# Altium integrated library AD Instrumentation Amplifier.IntLib: 75 symbols (part 1 of 2)
Pins are listed as number, name and electrical type; pins without a type are passive.

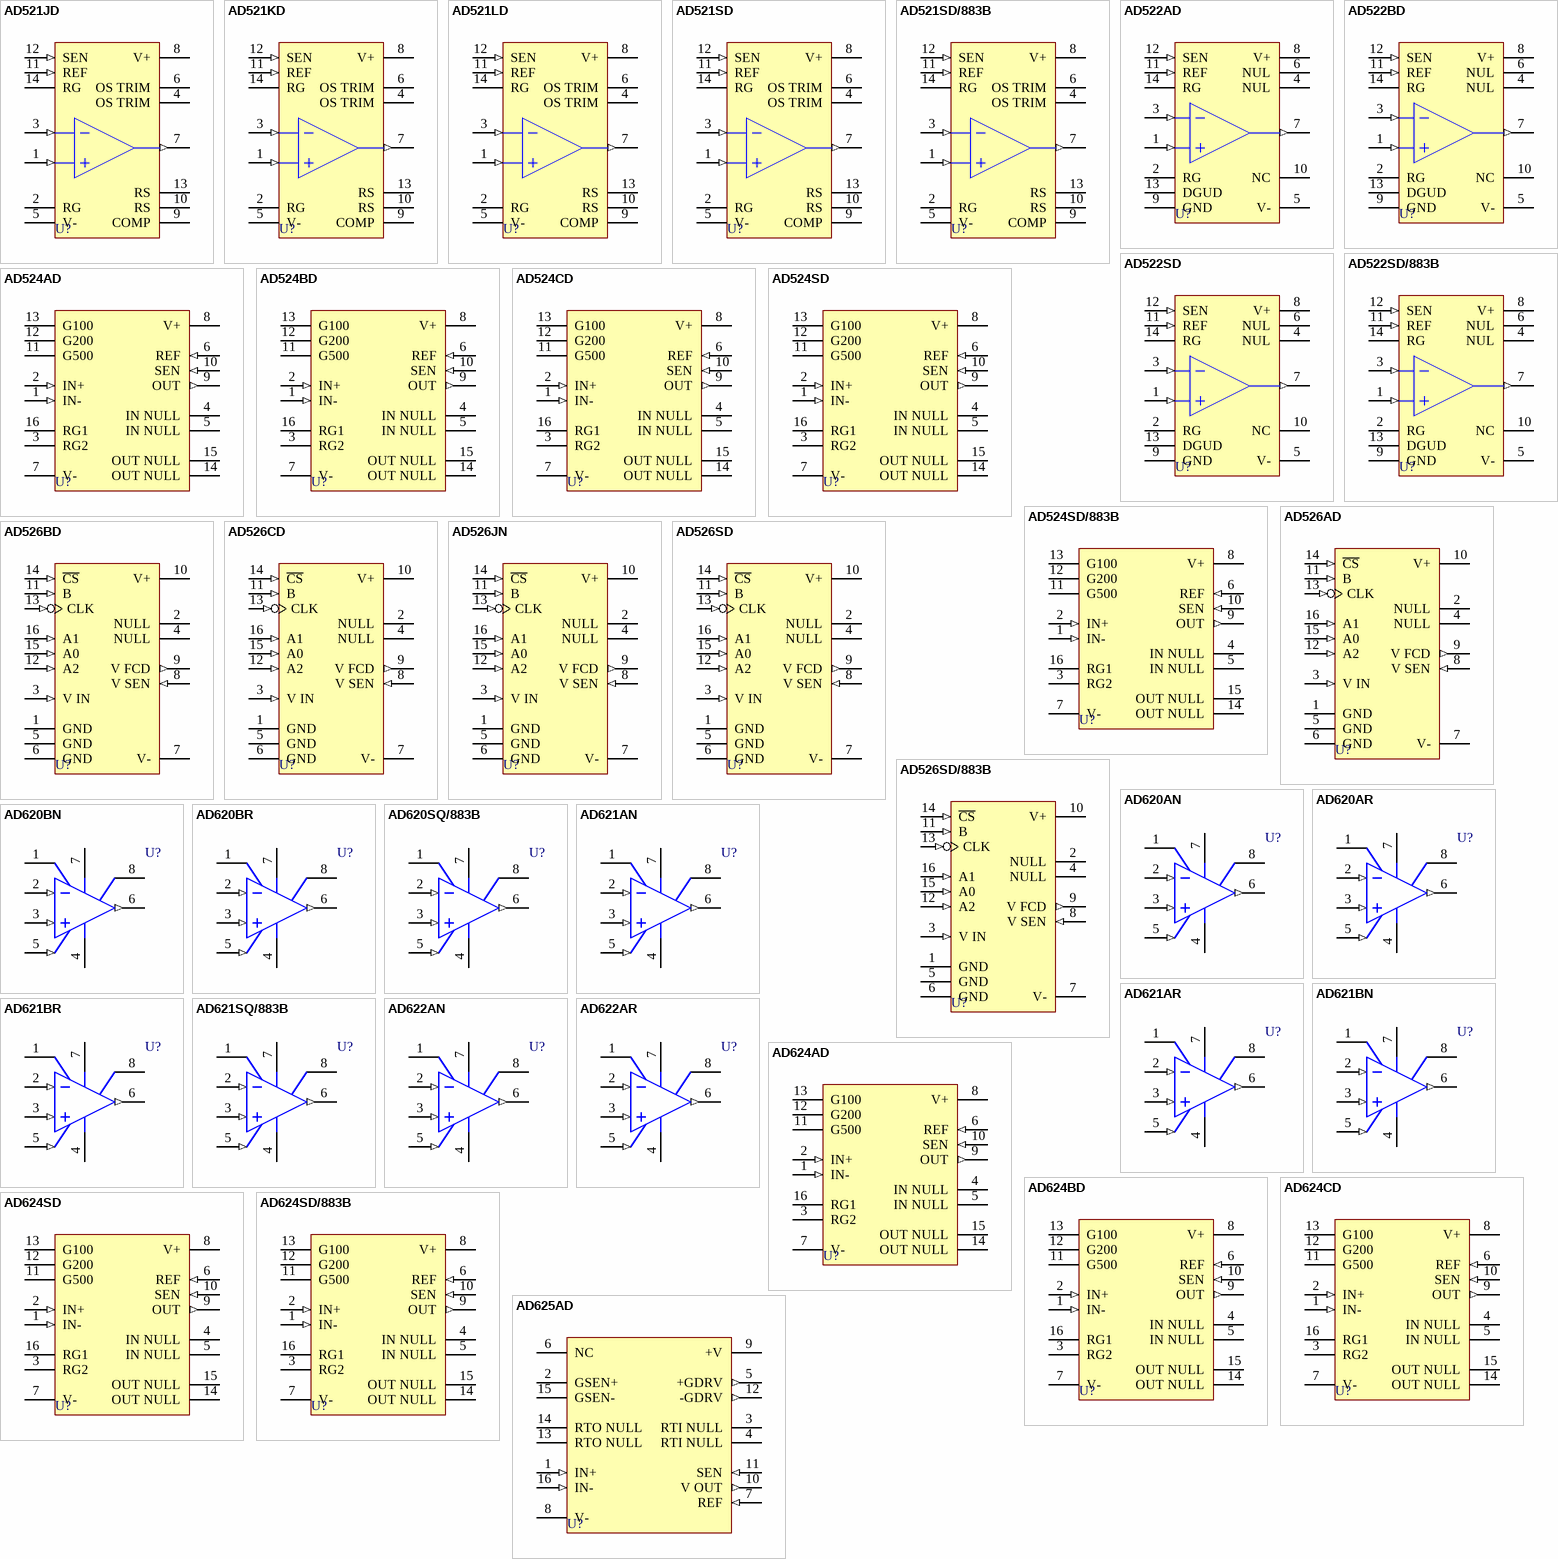
[diagram p0: symbols AD521JD to AD625AD]

## AD521JD
designator U?
Integrated Circuit Precision Instrumentation Amplifier; Published: 8-Jun-2000; LatestRevisionDate: 04-Mar-2005; LatestRevisionNote: Stylized 3D Model Added.; DatasheetVersion: 1999; PackageReference: D-14; Publisher: Altium Limited; PackageDescription: DIP; 14 Leads; Row Spacing 7.62 mm; Pitch 2.54 mm; ComponentLink1Description: Manufacturer Link; ComponentLink1URL: http://www.analog.com/
footprint D-14 (DIP; 14 Leads; Row Spacing 7.62 mm; Pitch 2.54 mm)
3D model D14 (DIP; 14 Leads; Row Spacing 7.62 mm; Pitch 2.54 mm)
pins: 1 IN+ (in), 2 RG, 3 IN- (in), 4 OS TRIM, 5 V- (power), 6 OS TRIM, 7 OUT (out), 8 V+ (power), 9 COMP, 10 RS, 11 REF (in), 12 SEN (in), 13 RS, 14 RG

## AD521KD
designator U?
Integrated Circuit Precision Instrumentation Amplifier; Published: 8-Jun-2000; LatestRevisionDate: 04-Mar-2005; LatestRevisionNote: Stylized 3D Model Added.; DatasheetVersion: 1999; PackageReference: D-14; Publisher: Altium Limited; PackageDescription: DIP; 14 Leads; Row Spacing 7.62 mm; Pitch 2.54 mm; ComponentLink1Description: Manufacturer Link; ComponentLink1URL: http://www.analog.com/
footprint D-14 (DIP; 14 Leads; Row Spacing 7.62 mm; Pitch 2.54 mm)
3D model D14 (DIP; 14 Leads; Row Spacing 7.62 mm; Pitch 2.54 mm)
pins: 1 IN+ (in), 2 RG, 3 IN- (in), 4 OS TRIM, 5 V- (power), 6 OS TRIM, 7 OUT (out), 8 V+ (power), 9 COMP, 10 RS, 11 REF (in), 12 SEN (in), 13 RS, 14 RG

## AD521LD
designator U?
Integrated Circuit Precision Instrumentation Amplifier; Published: 8-Jun-2000; LatestRevisionDate: 04-Mar-2005; LatestRevisionNote: Stylized 3D Model Added.; DatasheetVersion: 1999; PackageReference: D-14; Publisher: Altium Limited; PackageDescription: DIP; 14 Leads; Row Spacing 7.62 mm; Pitch 2.54 mm; ComponentLink1Description: Manufacturer Link; ComponentLink1URL: http://www.analog.com/
footprint D-14 (DIP; 14 Leads; Row Spacing 7.62 mm; Pitch 2.54 mm)
3D model D14 (DIP; 14 Leads; Row Spacing 7.62 mm; Pitch 2.54 mm)
pins: 1 IN+ (in), 2 RG, 3 IN- (in), 4 OS TRIM, 5 V- (power), 6 OS TRIM, 7 OUT (out), 8 V+ (power), 9 COMP, 10 RS, 11 REF (in), 12 SEN (in), 13 RS, 14 RG

## AD521SD
designator U?
Integrated Circuit Precision Instrumentation Amplifier; Published: 8-Jun-2000; LatestRevisionDate: 04-Mar-2005; LatestRevisionNote: Stylized 3D Model Added.; DatasheetVersion: 1999; PackageReference: D-14; Publisher: Altium Limited; PackageDescription: DIP; 14 Leads; Row Spacing 7.62 mm; Pitch 2.54 mm; ComponentLink1Description: Manufacturer Link; ComponentLink1URL: http://www.analog.com/
footprint D-14 (DIP; 14 Leads; Row Spacing 7.62 mm; Pitch 2.54 mm)
3D model D14 (DIP; 14 Leads; Row Spacing 7.62 mm; Pitch 2.54 mm)
pins: 1 IN+ (in), 2 RG, 3 IN- (in), 4 OS TRIM, 5 V- (power), 6 OS TRIM, 7 OUT (out), 8 V+ (power), 9 COMP, 10 RS, 11 REF (in), 12 SEN (in), 13 RS, 14 RG

## AD521SD/883B
designator U?
Integrated Circuit Precision Instrumentation Amplifier; Published: 8-Jun-2000; LatestRevisionDate: 04-Mar-2005; LatestRevisionNote: Stylized 3D Model Added.; DatasheetVersion: 1999; PackageReference: D-14; Publisher: Altium Limited; PackageDescription: DIP; 14 Leads; Row Spacing 7.62 mm; Pitch 2.54 mm; ComponentLink1Description: Manufacturer Link; ComponentLink1URL: http://www.analog.com/
footprint D-14 (DIP; 14 Leads; Row Spacing 7.62 mm; Pitch 2.54 mm)
3D model D14 (DIP; 14 Leads; Row Spacing 7.62 mm; Pitch 2.54 mm)
pins: 1 IN+ (in), 2 RG, 3 IN- (in), 4 OS TRIM, 5 V- (power), 6 OS TRIM, 7 OUT (out), 8 V+ (power), 9 COMP, 10 RS, 11 REF (in), 12 SEN (in), 13 RS, 14 RG

## AD522AD
designator U?
High-Accuracy Data Acquisition Instrumentation Amplifier; Published: 8-Jun-2000; LatestRevisionDate: 04-Mar-2005; LatestRevisionNote: Stylized 3D Model Added.; DatasheetVersion: 1999; PackageReference: DH-14B_A; Publisher: Altium Limited; PackageDescription: DIP; 14 Rectangular Pins; Row Space 7.62 mm; Pitch 2.54 mm; ComponentLink1Description: Manufacturer Link; ComponentLink1URL: http://www.analog.com/
footprint DH-14B_A (DIP; 14 Rectangular Pins; Row Space 7.62 mm; Pitch 2.54 mm)
3D model DH-14BA (DIP; 14 Rectangular Pins; Row Space 7.62 mm; Pitch 2.54 mm)
pins: 1 IN+ (in), 2 RG, 3 IN- (in), 4 NUL, 5 V- (power), 6 NUL, 7 OUT (out), 8 V+ (power), 9 GND, 10 NC, 11 REF (in), 12 SEN (in), 13 DGUD, 14 RG

## AD522BD
designator U?
High-Accuracy Data Acquisition Instrumentation Amplifier; Published: 8-Jun-2000; LatestRevisionDate: 04-Mar-2005; LatestRevisionNote: Stylized 3D Model Added.; DatasheetVersion: 1999; PackageReference: DH-14B_A; Publisher: Altium Limited; PackageDescription: DIP; 14 Rectangular Pins; Row Space 7.62 mm; Pitch 2.54 mm; ComponentLink1Description: Manufacturer Link; ComponentLink1URL: http://www.analog.com/
footprint DH-14B_A (DIP; 14 Rectangular Pins; Row Space 7.62 mm; Pitch 2.54 mm)
3D model DH-14BA (DIP; 14 Rectangular Pins; Row Space 7.62 mm; Pitch 2.54 mm)
pins: 1 IN+ (in), 2 RG, 3 IN- (in), 4 NUL, 5 V- (power), 6 NUL, 7 OUT (out), 8 V+ (power), 9 GND, 10 NC, 11 REF (in), 12 SEN (in), 13 DGUD, 14 RG

## AD522SD
designator U?
High-Accuracy Data Acquisition Instrumentation Amplifier; Published: 8-Jun-2000; LatestRevisionDate: 04-Mar-2005; LatestRevisionNote: Stylized 3D Model Added.; DatasheetVersion: 1999; PackageReference: DH-14M; Publisher: Altium Limited; PackageDescription: DIP; 14 Round Pins; Row Space 7.62 mm; Pitch 2.54 mm; ComponentLink1Description: Manufacturer Link; ComponentLink1URL: http://www.analog.com/
footprint DH-14M (DIP; 14 Round Pins; Row Space 7.62 mm; Pitch 2.54 mm)
3D model DH-14M (DIP; 14 Round Pins; Row Space 7.62 mm; Pitch 2.54 mm)
pins: 1 IN+ (in), 2 RG, 3 IN- (in), 4 NUL, 5 V- (power), 6 NUL, 7 OUT (out), 8 V+ (power), 9 GND, 10 NC, 11 REF (in), 12 SEN (in), 13 DGUD, 14 RG

## AD522SD/883B
designator U?
High-Accuracy Data Acquisition Instrumentation Amplifier; Published: 8-Jun-2000; LatestRevisionDate: 04-Mar-2005; LatestRevisionNote: Stylized 3D Model Added.; DatasheetVersion: 1999; PackageReference: DH-14M; Publisher: Altium Limited; PackageDescription: DIP; 14 Round Pins; Row Space 7.62 mm; Pitch 2.54 mm; ComponentLink1Description: Manufacturer Link; ComponentLink1URL: http://www.analog.com/
footprint DH-14M (DIP; 14 Round Pins; Row Space 7.62 mm; Pitch 2.54 mm)
3D model DH-14M (DIP; 14 Round Pins; Row Space 7.62 mm; Pitch 2.54 mm)
pins: 1 IN+ (in), 2 RG, 3 IN- (in), 4 NUL, 5 V- (power), 6 NUL, 7 OUT (out), 8 V+ (power), 9 GND, 10 NC, 11 REF (in), 12 SEN (in), 13 DGUD, 14 RG

## AD524AD
designator U?
Precision Instrumentation Amplifier; Published: 8-Jun-2000; LatestRevisionDate: 04-Mar-2005; LatestRevisionNote: Stylized 3D Model Added.; DatasheetVersion: 1999; PackageVersion: revB, 1996; PackageReference: D-16_B; Publisher: Altium Limited; PackageDescription: DIP; 16 Leads; Row Spacing 7.62 mm; Pitch 2.54 mm; ComponentLink1Description: Manufacturer Link; ComponentLink1URL: http://www.analog.com/en/prod/0%2C2877%2CAD524%2C00.html; ComponentLink2Description: Datasheet; ComponentLink2URL: http://www.analog.com/UploadedFiles/Data_Sheets/771784793AD524_e.pdf
footprint D-16_B (DIP; 16 Leads; Row Spacing 7.62 mm; Pitch 2.54 mm)
3D model D16-B (DIP; 16 Leads; Row Spacing 7.62 mm; Pitch 2.54 mm)
pins: 1 IN- (in), 2 IN+ (in), 3 RG2, 4 IN NULL, 5 IN NULL, 6 REF (in), 7 V- (power), 8 V+ (power), 9 OUT (out), 10 SEN (in), 11 G500, 12 G200, 13 G100, 14 OUT NULL, 15 OUT NULL, 16 RG1

## AD524BD
designator U?
Precision Instrumentation Amplifier; Published: 8-Jun-2000; LatestRevisionDate: 04-Mar-2005; LatestRevisionNote: Stylized 3D Model Added.; DatasheetVersion: 1999; PackageVersion: revB, 1996; PackageReference: D-16_B; Publisher: Altium Limited; PackageDescription: DIP; 16 Leads; Row Spacing 7.62 mm; Pitch 2.54 mm; ComponentLink1Description: Manufacturer Link; ComponentLink1URL: http://www.analog.com/en/prod/0%2C2877%2CAD524%2C00.html; ComponentLink2Description: Datasheet; ComponentLink2URL: http://www.analog.com/UploadedFiles/Data_Sheets/771784793AD524_e.pdf
footprint D-16_B (DIP; 16 Leads; Row Spacing 7.62 mm; Pitch 2.54 mm)
3D model D16-B (DIP; 16 Leads; Row Spacing 7.62 mm; Pitch 2.54 mm)
pins: 1 IN- (in), 2 IN+ (in), 3 RG2, 4 IN NULL, 5 IN NULL, 6 REF (in), 7 V- (power), 8 V+ (power), 9 OUT (out), 10 SEN (in), 11 G500, 12 G200, 13 G100, 14 OUT NULL, 15 OUT NULL, 16 RG1

## AD524CD
designator U?
Precision Instrumentation Amplifier; Published: 8-Jun-2000; LatestRevisionDate: 04-Mar-2005; LatestRevisionNote: Stylized 3D Model Added.; DatasheetVersion: 1999; PackageVersion: revB, 1996; PackageReference: D-16_B; Publisher: Altium Limited; PackageDescription: DIP; 16 Leads; Row Spacing 7.62 mm; Pitch 2.54 mm; ComponentLink1Description: Manufacturer Link; ComponentLink1URL: http://www.analog.com/en/prod/0%2C2877%2CAD524%2C00.html; ComponentLink2Description: Datasheet; ComponentLink2URL: http://www.analog.com/UploadedFiles/Data_Sheets/771784793AD524_e.pdf
footprint D-16_B (DIP; 16 Leads; Row Spacing 7.62 mm; Pitch 2.54 mm)
3D model D16-B (DIP; 16 Leads; Row Spacing 7.62 mm; Pitch 2.54 mm)
pins: 1 IN- (in), 2 IN+ (in), 3 RG2, 4 IN NULL, 5 IN NULL, 6 REF (in), 7 V- (power), 8 V+ (power), 9 OUT (out), 10 SEN (in), 11 G500, 12 G200, 13 G100, 14 OUT NULL, 15 OUT NULL, 16 RG1

## AD524SD
designator U?
Precision Instrumentation Amplifier; Published: 8-Jun-2000; LatestRevisionDate: 04-Mar-2005; LatestRevisionNote: Stylized 3D Model Added.; DatasheetVersion: 1999; PackageVersion: revB, 1996; PackageReference: D-16_B; Publisher: Altium Limited; PackageDescription: DIP; 16 Leads; Row Spacing 7.62 mm; Pitch 2.54 mm; ComponentLink1Description: Manufacturer Link; ComponentLink1URL: http://www.analog.com/en/prod/0%2C2877%2CAD524%2C00.html; ComponentLink2Description: Datasheet; ComponentLink2URL: http://www.analog.com/UploadedFiles/Data_Sheets/771784793AD524_e.pdf
footprint D-16_B (DIP; 16 Leads; Row Spacing 7.62 mm; Pitch 2.54 mm)
3D model D16-B (DIP; 16 Leads; Row Spacing 7.62 mm; Pitch 2.54 mm)
pins: 1 IN- (in), 2 IN+ (in), 3 RG2, 4 IN NULL, 5 IN NULL, 6 REF (in), 7 V- (power), 8 V+ (power), 9 OUT (out), 10 SEN (in), 11 G500, 12 G200, 13 G100, 14 OUT NULL, 15 OUT NULL, 16 RG1

## AD524SD/883B
designator U?
Precision Instrumentation Amplifier; Published: 8-Jun-2000; LatestRevisionDate: 04-Mar-2005; LatestRevisionNote: Stylized 3D Model Added.; DatasheetVersion: 1999; PackageVersion: revB, 1996; PackageReference: D-16_B; Publisher: Altium Limited; PackageDescription: DIP; 16 Leads; Row Spacing 7.62 mm; Pitch 2.54 mm; ComponentLink1Description: Manufacturer Link; ComponentLink1URL: http://www.analog.com/en/prod/0%2C2877%2CAD524%2C00.html; ComponentLink2Description: Datasheet; ComponentLink2URL: http://www.analog.com/UploadedFiles/Data_Sheets/771784793AD524_e.pdf
footprint D-16_B (DIP; 16 Leads; Row Spacing 7.62 mm; Pitch 2.54 mm)
3D model D16-B (DIP; 16 Leads; Row Spacing 7.62 mm; Pitch 2.54 mm)
pins: 1 IN- (in), 2 IN+ (in), 3 RG2, 4 IN NULL, 5 IN NULL, 6 REF (in), 7 V- (power), 8 V+ (power), 9 OUT (out), 10 SEN (in), 11 G500, 12 G200, 13 G100, 14 OUT NULL, 15 OUT NULL, 16 RG1

## AD526AD
designator U?
Software Programmable Gain Amplifier; Note: Pins 6 and 7 are analog ground; Pin 1 is digital ground.; Published: 8-Jun-2000; LatestRevisionDate: 04-Mar-2005; LatestRevisionNote: Stylized 3D Model Added.; DatasheetVersion: 1999; PackageVersion: revB, 1996; PackageReference: D-16_B; Publisher: Altium Limited; PackageDescription: DIP; 16 Leads; Row Spacing 7.62 mm; Pitch 2.54 mm; ComponentLink1Description: Manufacturer Link; ComponentLink1URL: http://www.analog.com/en/prod/0%2C2877%2CAD526%2C00.html; ComponentLink2Description: Datasheet; ComponentLink2URL: http://www.analog.com/UploadedFiles/Data_Sheets/336979966AD526_d.pdf
footprint D-16_B (DIP; 16 Leads; Row Spacing 7.62 mm; Pitch 2.54 mm)
3D model D16-B (DIP; 16 Leads; Row Spacing 7.62 mm; Pitch 2.54 mm)
pins: 1 GND (power), 2 NULL, 3 V IN (in), 4 NULL, 5 GND (power), 6 GND (power), 7 V- (power), 8 V SEN (in), 9 V FCD (out), 10 V+ (power), 11 B (in), 12 A2 (in), 13 CLK (in), 14 ~{CS} (in), 15 A0 (in), 16 A1 (in)

## AD526BD
designator U?
Software Programmable Gain Amplifier; Note: Pins 6 and 7 are analog ground; Pin 1 is digital ground.; Published: 8-Jun-2000; LatestRevisionDate: 04-Mar-2005; LatestRevisionNote: Stylized 3D Model Added.; DatasheetVersion: 1999; PackageVersion: revB, 1996; PackageReference: D-16_B; Publisher: Altium Limited; PackageDescription: DIP; 16 Leads; Row Spacing 7.62 mm; Pitch 2.54 mm; ComponentLink1Description: Manufacturer Link; ComponentLink1URL: http://www.analog.com/en/prod/0%2C2877%2CAD526%2C00.html; ComponentLink2Description: Datasheet; ComponentLink2URL: http://www.analog.com/UploadedFiles/Data_Sheets/336979966AD526_d.pdf
footprint D-16_B (DIP; 16 Leads; Row Spacing 7.62 mm; Pitch 2.54 mm)
3D model D16-B (DIP; 16 Leads; Row Spacing 7.62 mm; Pitch 2.54 mm)
pins: 1 GND (power), 2 NULL, 3 V IN (in), 4 NULL, 5 GND (power), 6 GND (power), 7 V- (power), 8 V SEN (in), 9 V FCD (out), 10 V+ (power), 11 B (in), 12 A2 (in), 13 CLK (in), 14 ~{CS} (in), 15 A0 (in), 16 A1 (in)

## AD526CD
designator U?
Software Programmable Gain Amplifier; Note: Pins 6 and 7 are analog ground; Pin 1 is digital ground.; Published: 8-Jun-2000; LatestRevisionDate: 04-Mar-2005; LatestRevisionNote: Stylized 3D Model Added.; DatasheetVersion: 1999; PackageVersion: revB, 1996; PackageReference: D-16_B; Publisher: Altium Limited; PackageDescription: DIP; 16 Leads; Row Spacing 7.62 mm; Pitch 2.54 mm; ComponentLink1Description: Manufacturer Link; ComponentLink1URL: http://www.analog.com/en/prod/0%2C2877%2CAD526%2C00.html; ComponentLink2Description: Datasheet; ComponentLink2URL: http://www.analog.com/UploadedFiles/Data_Sheets/336979966AD526_d.pdf
footprint D-16_B (DIP; 16 Leads; Row Spacing 7.62 mm; Pitch 2.54 mm)
3D model D16-B (DIP; 16 Leads; Row Spacing 7.62 mm; Pitch 2.54 mm)
pins: 1 GND (power), 2 NULL, 3 V IN (in), 4 NULL, 5 GND (power), 6 GND (power), 7 V- (power), 8 V SEN (in), 9 V FCD (out), 10 V+ (power), 11 B (in), 12 A2 (in), 13 CLK (in), 14 ~{CS} (in), 15 A0 (in), 16 A1 (in)

## AD526JN
designator U?
Software Programmable Gain Amplifier; Note: Pins 6 and 7 are analog ground; Pin 1 is digital ground.; Published: 8-Jun-2000; LatestRevisionDate: 04-Mar-2005; LatestRevisionNote: Stylized 3D Model Added.; DatasheetVersion: 1999; PackageVersion: revC; PackageReference: N-16_B; Publisher: Altium Limited; PackageDescription: DIP; 16 Leads; Row Spacing 7.62 mm; Pitch 2.54 mm; ComponentLink1Description: Manufacturer Link; ComponentLink1URL: http://www.analog.com/en/prod/0%2C2877%2CAD526%2C00.html; ComponentLink2Description: Datasheet; ComponentLink2URL: http://www.analog.com/UploadedFiles/Data_Sheets/336979966AD526_d.pdf
footprint N-16_B (DIP; 16 Leads; Row Spacing 7.62 mm; Pitch 2.54 mm)
3D model N16-B (DIP; 16 Leads; Row Spacing 7.62 mm; Pitch 2.54 mm)
pins: 1 GND (power), 2 NULL, 3 V IN (in), 4 NULL, 5 GND (power), 6 GND (power), 7 V- (power), 8 V SEN (in), 9 V FCD (out), 10 V+ (power), 11 B (in), 12 A2 (in), 13 CLK (in), 14 ~{CS} (in), 15 A0 (in), 16 A1 (in)

## AD526SD
designator U?
Software Programmable Gain Amplifier; Note: Pins 6 and 7 are analog ground; Pin 1 is digital ground.; Published: 8-Jun-2000; LatestRevisionDate: 04-Mar-2005; LatestRevisionNote: Stylized 3D Model Added.; DatasheetVersion: 1999; PackageVersion: revB, 1996; PackageReference: D-16_B; Publisher: Altium Limited; PackageDescription: DIP; 16 Leads; Row Spacing 7.62 mm; Pitch 2.54 mm; ComponentLink1Description: Manufacturer Link; ComponentLink1URL: http://www.analog.com/en/prod/0%2C2877%2CAD526%2C00.html; ComponentLink2Description: Datasheet; ComponentLink2URL: http://www.analog.com/UploadedFiles/Data_Sheets/336979966AD526_d.pdf
footprint D-16_B (DIP; 16 Leads; Row Spacing 7.62 mm; Pitch 2.54 mm)
3D model D16-B (DIP; 16 Leads; Row Spacing 7.62 mm; Pitch 2.54 mm)
pins: 1 GND (power), 2 NULL, 3 V IN (in), 4 NULL, 5 GND (power), 6 GND (power), 7 V- (power), 8 V SEN (in), 9 V FCD (out), 10 V+ (power), 11 B (in), 12 A2 (in), 13 CLK (in), 14 ~{CS} (in), 15 A0 (in), 16 A1 (in)

## AD526SD/883B
designator U?
Software Programmable Gain Amplifier; Note: Pins 6 and 7 are analog ground; Pin 1 is digital ground.; Published: 8-Jun-2000; LatestRevisionDate: 04-Mar-2005; LatestRevisionNote: Stylized 3D Model Added.; DatasheetVersion: 1999; PackageVersion: revB, 1996; PackageReference: D-16_B; Publisher: Altium Limited; PackageDescription: DIP; 16 Leads; Row Spacing 7.62 mm; Pitch 2.54 mm; ComponentLink1Description: Manufacturer Link; ComponentLink1URL: http://www.analog.com/en/prod/0%2C2877%2CAD526%2C00.html; ComponentLink2Description: Datasheet; ComponentLink2URL: http://www.analog.com/UploadedFiles/Data_Sheets/336979966AD526_d.pdf
footprint D-16_B (DIP; 16 Leads; Row Spacing 7.62 mm; Pitch 2.54 mm)
3D model D16-B (DIP; 16 Leads; Row Spacing 7.62 mm; Pitch 2.54 mm)
pins: 1 GND (power), 2 NULL, 3 V IN (in), 4 NULL, 5 GND (power), 6 GND (power), 7 V- (power), 8 V SEN (in), 9 V FCD (out), 10 V+ (power), 11 B (in), 12 A2 (in), 13 CLK (in), 14 ~{CS} (in), 15 A0 (in), 16 A1 (in)

## AD620AN
designator U?
Low-Cost, Low-Power Instrumentation Amplifier; Published: 8-Jun-2000; LatestRevisionDate: 04-Mar-2005; LatestRevisionNote: Stylized 3D Model Added.; DatasheetVersion: REV.D 1998; PackageVersion: revA; PackageReference: N-8; Publisher: Altium Limited; PackageDescription: DIP; 8 Leads; Row Spacing 7.62 mm; Pitch 2.54 mm; ComponentLink1Description: Manufacturer Link; ComponentLink1URL: http://www.analog.com/en/prod/0%2C2877%2CAD620%2C00.html; ComponentLink2Description: Datasheet; ComponentLink2URL: http://www.analog.com/UploadedFiles/Data_Sheets/897653854AD620_g.pdf
footprint N-8 (DIP; 8 Leads; Row Spacing 7.62 mm; Pitch 2.54 mm)
3D model N8 (DIP; 8 Leads; Row Spacing 7.62 mm; Pitch 2.54 mm)
simulation model AD620A (SUBCKT)
pins: 1 RG, 2 -IN (in), 3 +IN (in), 4 V- (power), 5 REF (in), 6 OUT (out), 7 V+ (power), 8 RG

## AD620AR
designator U?
Low-Cost, Low-Power Instrumentation Amplifier; Published: 8-Jun-2000; LatestRevisionDate: 13-Apr-2006; LatestRevisionNote: IPC-7351 Footprint Added.; DatasheetVersion: REV.D 1998; PackageVersion: 1998; PackageReference: R-8D; Publisher: Altium Limited; PackageDescription: 8-Pin Narrow Body Small Outline Integrated Circuit 1.27 mm Pitch; ComponentLink1Description: Manufacturer Link; ComponentLink1URL: http://www.analog.com/en/prod/0%2C2877%2CAD620%2C00.html; ComponentLink2Description: Datasheet; ComponentLink2URL: http://www.analog.com/UploadedFiles/Data_Sheets/897653854AD620_g.pdf
footprint R-8D_N (SOIC, 8-Leads, Body 4.9x3.9mm, Pitch 1.27mm, IPC Medium Density)
footprint R-8D_L (SOIC, 8-Leads, Body 4.9x3.9mm, Pitch 1.27mm, IPC High Density)
footprint R-8D_M (SOIC, 8-Leads, Body 4.9x3.9mm, Pitch 1.27mm, IPC Low Density)
3D model R-8D (8-Pin Narrow Body Small Outline Integrated Circuit 1.27 mm Pitch)
simulation model AD620A (SUBCKT)
pins: 1 RG, 2 -IN (in), 3 +IN (in), 4 V- (power), 5 REF (in), 6 OUT (out), 7 V+ (power), 8 RG

## AD620BN
designator U?
Low-Cost, Low-Power Instrumentation Amplifier; Published: 8-Jun-2000; LatestRevisionDate: 04-Mar-2005; LatestRevisionNote: Stylized 3D Model Added.; DatasheetVersion: REV.D 1998; PackageVersion: revA; PackageReference: N-8; Publisher: Altium Limited; PackageDescription: DIP; 8 Leads; Row Spacing 7.62 mm; Pitch 2.54 mm; ComponentLink1Description: Manufacturer Link; ComponentLink1URL: http://www.analog.com/en/prod/0%2C2877%2CAD620%2C00.html; ComponentLink2Description: Datasheet; ComponentLink2URL: http://www.analog.com/UploadedFiles/Data_Sheets/897653854AD620_g.pdf
footprint N-8 (DIP; 8 Leads; Row Spacing 7.62 mm; Pitch 2.54 mm)
3D model N8 (DIP; 8 Leads; Row Spacing 7.62 mm; Pitch 2.54 mm)
simulation model AD620B (SUBCKT)
pins: 1 RG, 2 -IN (in), 3 +IN (in), 4 V- (power), 5 REF (in), 6 OUT (out), 7 V+ (power), 8 RG

## AD620BR
designator U?
Low-Cost, Low-Power Instrumentation Amplifier; Published: 8-Jun-2000; LatestRevisionDate: 13-Apr-2006; LatestRevisionNote: IPC-7351 Footprint Added.; DatasheetVersion: REV.D 1998; PackageVersion: 1998; PackageReference: R-8D; Publisher: Altium Limited; PackageDescription: 8-Pin Narrow Body Small Outline Integrated Circuit 1.27 mm Pitch; ComponentLink1Description: Manufacturer Link; ComponentLink1URL: http://www.analog.com/en/prod/0%2C2877%2CAD620%2C00.html; ComponentLink2Description: Datasheet; ComponentLink2URL: http://www.analog.com/UploadedFiles/Data_Sheets/897653854AD620_g.pdf
footprint R-8D_N (SOIC, 8-Leads, Body 4.9x3.9mm, Pitch 1.27mm, IPC Medium Density)
footprint R-8D_L (SOIC, 8-Leads, Body 4.9x3.9mm, Pitch 1.27mm, IPC High Density)
footprint R-8D_M (SOIC, 8-Leads, Body 4.9x3.9mm, Pitch 1.27mm, IPC Low Density)
3D model R-8D (8-Pin Narrow Body Small Outline Integrated Circuit 1.27 mm Pitch)
simulation model AD620B (SUBCKT)
pins: 1 RG, 2 -IN (in), 3 +IN (in), 4 V- (power), 5 REF (in), 6 OUT (out), 7 V+ (power), 8 RG

## AD620SQ/883B
designator U?
Low-Cost, Low-Power Instrumentation Amplifier; Published: 8-Jun-2000; LatestRevisionDate: 04-Mar-2005; LatestRevisionNote: Stylized 3D Model Added.; DatasheetVersion: REV.D 1998; PackageVersion: 1998; PackageReference: Q-8; Publisher: Altium Limited; PackageDescription: DIP; 8 Leads; Row Spacing 7.62 mm; Pitch 2.54 mm; ComponentLink1Description: Manufacturer Link; ComponentLink1URL: http://www.analog.com/en/prod/0%2C2877%2CAD620%2C00.html; ComponentLink2Description: Datasheet; ComponentLink2URL: http://www.analog.com/UploadedFiles/Data_Sheets/897653854AD620_g.pdf
footprint Q-8 (DIP; 8 Leads; Row Spacing 7.62 mm; Pitch 2.54 mm)
3D model N8 (DIP; 8 Leads; Row Spacing 7.62 mm; Pitch 2.54 mm)
simulation model AD620S (SUBCKT)
pins: 1 RG, 2 -IN (in), 3 +IN (in), 4 V- (power), 5 REF (in), 6 OUT (out), 7 V+ (power), 8 RG

## AD621AN
designator U?
Low-Drift, Low-Power Instrumentation Amplifier; Published: 8-Jun-2000; LatestRevisionDate: 04-Mar-2005; LatestRevisionNote: Stylized 3D Model Added.; DatasheetVersion: REV.A 1998; PackageVersion: revA; PackageReference: N-8; Publisher: Altium Limited; PackageDescription: DIP; 8 Leads; Row Spacing 7.62 mm; Pitch 2.54 mm; ComponentLink1Description: Manufacturer Link; ComponentLink1URL: http://www.analog.com/en/prod/0%2C2877%2CAD621%2C00.html; ComponentLink2Description: Datasheet; ComponentLink2URL: http://www.analog.com/UploadedFiles/Data_Sheets/789405427AD621_b.pdf
footprint N-8 (DIP; 8 Leads; Row Spacing 7.62 mm; Pitch 2.54 mm)
3D model N8 (DIP; 8 Leads; Row Spacing 7.62 mm; Pitch 2.54 mm)
pins: 1 G=10/100, 2 -IN (in), 3 +IN (in), 4 V- (power), 5 REF (in), 6 OUT (out), 7 V+ (power), 8 G=10/100

## AD621AR
designator U?
Low-Drift, Low-Power Instrumentation Amplifier; Published: 8-Jun-2000; LatestRevisionDate: 13-Apr-2006; LatestRevisionNote: IPC-7351 Footprint Added.; DatasheetVersion: REV.A 1998; PackageVersion: revA; PackageReference: R-8E; Publisher: Altium Limited; PackageDescription: 8-Pin Small Outline Integrated Circuit 1.27 mm Pitch; Code_IPC: SOIC127P600-8; ComponentLink1Description: Manufacturer Link; ComponentLink1URL: http://www.analog.com/en/prod/0%2C2877%2CAD621%2C00.html; ComponentLink2Description: Datasheet; ComponentLink2URL: http://www.analog.com/UploadedFiles/Data_Sheets/789405427AD621_b.pdf
footprint R-8E_N (SOIC, 8-Leads, Body 4.9x3.9mm, Pitch 1.27mm, IPC Medium Density)
footprint R-8E_L (SOIC, 8-Leads, Body 4.9x3.9mm, Pitch 1.27mm, IPC High Density)
footprint R-8E_M (SOIC, 8-Leads, Body 4.9x3.9mm, Pitch 1.27mm, IPC Low Density)
3D model R-8E (8-Pin Small Outline Integrated Circuit 1.27 mm Pitch)
pins: 1 G=10/100, 2 -IN (in), 3 +IN (in), 4 V- (power), 5 REF (in), 6 OUT (out), 7 V+ (power), 8 G=10/100

## AD621BN
designator U?
Low-Drift, Low-Power Instrumentation Amplifier; Published: 8-Jun-2000; LatestRevisionDate: 04-Mar-2005; LatestRevisionNote: Stylized 3D Model Added.; DatasheetVersion: REV.A 1998; PackageVersion: revA; PackageReference: N-8; Publisher: Altium Limited; PackageDescription: DIP; 8 Leads; Row Spacing 7.62 mm; Pitch 2.54 mm; ComponentLink1Description: Manufacturer Link; ComponentLink1URL: http://www.analog.com/en/prod/0%2C2877%2CAD621%2C00.html; ComponentLink2Description: Datasheet; ComponentLink2URL: http://www.analog.com/UploadedFiles/Data_Sheets/789405427AD621_b.pdf
footprint N-8 (DIP; 8 Leads; Row Spacing 7.62 mm; Pitch 2.54 mm)
3D model N8 (DIP; 8 Leads; Row Spacing 7.62 mm; Pitch 2.54 mm)
pins: 1 G=10/100, 2 -IN (in), 3 +IN (in), 4 V- (power), 5 REF (in), 6 OUT (out), 7 V+ (power), 8 G=10/100

## AD621BR
designator U?
Low-Drift, Low-Power Instrumentation Amplifier; Published: 8-Jun-2000; LatestRevisionDate: 13-Apr-2006; LatestRevisionNote: IPC-7351 Footprint Added.; DatasheetVersion: REV.A 1998; PackageVersion: revA; PackageReference: R-8E; Publisher: Altium Limited; PackageDescription: 8-Pin Small Outline Integrated Circuit 1.27 mm Pitch; Code_IPC: SOIC127P600-8; ComponentLink1Description: Manufacturer Link; ComponentLink1URL: http://www.analog.com/en/prod/0%2C2877%2CAD621%2C00.html; ComponentLink2Description: Datasheet; ComponentLink2URL: http://www.analog.com/UploadedFiles/Data_Sheets/789405427AD621_b.pdf
footprint R-8E_N (SOIC, 8-Leads, Body 4.9x3.9mm, Pitch 1.27mm, IPC Medium Density)
footprint R-8E_L (SOIC, 8-Leads, Body 4.9x3.9mm, Pitch 1.27mm, IPC High Density)
footprint R-8E_M (SOIC, 8-Leads, Body 4.9x3.9mm, Pitch 1.27mm, IPC Low Density)
3D model R-8E (8-Pin Small Outline Integrated Circuit 1.27 mm Pitch)
pins: 1 G=10/100, 2 -IN (in), 3 +IN (in), 4 V- (power), 5 REF (in), 6 OUT (out), 7 V+ (power), 8 G=10/100

## AD621SQ/883B
designator U?
Low-Drift, Low-Power Instrumentation Amplifier; Published: 8-Jun-2000; LatestRevisionDate: 04-Mar-2005; LatestRevisionNote: Stylized 3D Model Added.; DatasheetVersion: REV.A 1998; PackageVersion: 1998; PackageReference: Q-8; Publisher: Altium Limited; PackageDescription: DIP; 8 Leads; Row Spacing 7.62 mm; Pitch 2.54 mm; ComponentLink1Description: Manufacturer Link; ComponentLink1URL: http://www.analog.com/en/prod/0%2C2877%2CAD621%2C00.html; ComponentLink2Description: Datasheet; ComponentLink2URL: http://www.analog.com/UploadedFiles/Data_Sheets/789405427AD621_b.pdf
footprint Q-8 (DIP; 8 Leads; Row Spacing 7.62 mm; Pitch 2.54 mm)
3D model N8 (DIP; 8 Leads; Row Spacing 7.62 mm; Pitch 2.54 mm)
pins: 1 G=10/100, 2 -IN (in), 3 +IN (in), 4 V- (power), 5 REF (in), 6 OUT (out), 7 V+ (power), 8 G=10/100

## AD622AN
designator U?
Low-Cost Instrumentation Amplifier; Published: 8-Jun-2000; LatestRevisionDate: 04-Mar-2005; LatestRevisionNote: Stylized 3D Model Added.; DatasheetVersion: REV.A 1997; PackageReference: N-8_A; Publisher: Altium Limited; PackageDescription: DIP; 8 Leads; Row Spacing 7.62 mm; Pitch 2.54 mm; Code_JEDEC: MO-001-AN; ComponentLink1Description: Manufacturer Link; ComponentLink1URL: http://www.analog.com/en/prod/0%2C2877%2CAD622%2C00.html; ComponentLink2Description: Datasheet; ComponentLink2URL: http://www.analog.com/UploadedFiles/Data_Sheets/218546992AD622_c.pdf
footprint N-8_A (DIP; 8 Leads; Row Spacing 7.62 mm; Pitch 2.54 mm)
3D model N8-A (DIP; 8 Leads; Row Spacing 7.62 mm; Pitch 2.54 mm)
pins: 1 RG, 2 -IN (in), 3 +IN (in), 4 V- (power), 5 REF (in), 6 OUT (out), 7 V+ (power), 8 RG

## AD622AR
designator U?
Low-Cost Instrumentation Amplifier; Published: 8-Jun-2000; LatestRevisionDate: 13-Apr-2006; LatestRevisionNote: IPC-7351 Footprint Added.; DatasheetVersion: REV.A 1997; PackageVersion: revA; PackageReference: SO-8; Publisher: Altium Limited; PackageDescription: 8-Pin Small Outline Integrated Circuit 1.27 mm Pitch; Code_JEDEC: MS-012-AA; Code_IPC: SOIC127P600-8; ComponentLink1Description: Manufacturer Link; ComponentLink1URL: http://www.analog.com/en/prod/0%2C2877%2CAD622%2C00.html; ComponentLink2Description: Datasheet; ComponentLink2URL: http://www.analog.com/UploadedFiles/Data_Sheets/218546992AD622_c.pdf
footprint SO-8_N (SOIC, 8-Leads, Body 4.9x3.9mm, Pitch 1.27mm, IPC Medium Density)
footprint SO-8_L (SOIC, 8-Leads, Body 4.9x3.9mm, Pitch 1.27mm, IPC High Density)
footprint SO-8_M (SOIC, 8-Leads, Body 4.9x3.9mm, Pitch 1.27mm, IPC Low Density)
3D model SO-8 (8-Pin Small Outline Integrated Circuit 1.27 mm Pitch)
pins: 1 RG, 2 -IN (in), 3 +IN (in), 4 V- (power), 5 REF (in), 6 OUT (out), 7 V+ (power), 8 RG

## AD624AD
designator U?
Precision Instrumentation Amplifier; Published: 8-Jun-2000; LatestRevisionDate: 04-Mar-2005; LatestRevisionNote: Stylized 3D Model Added.; DatasheetVersion: REV.B 1996; PackageVersion: revB, 1996; PackageReference: D-16_B; Publisher: Altium Limited; PackageDescription: DIP; 16 Leads; Row Spacing 7.62 mm; Pitch 2.54 mm; ComponentLink1Description: Manufacturer Link; ComponentLink1URL: http://www.analog.com/en/prod/0%2C2877%2CAD622%2C00.html; ComponentLink2Description: Datasheet; ComponentLink2URL: http://www.analog.com/UploadedFiles/Data_Sheets/218546992AD622_c.pdf
footprint D-16_B (DIP; 16 Leads; Row Spacing 7.62 mm; Pitch 2.54 mm)
3D model D16-B (DIP; 16 Leads; Row Spacing 7.62 mm; Pitch 2.54 mm)
simulation model AD624A (SUBCKT)
pins: 1 IN- (in), 2 IN+ (in), 3 RG2, 4 IN NULL, 5 IN NULL, 6 REF (in), 7 V- (power), 8 V+ (power), 9 OUT (out), 10 SEN (in), 11 G500, 12 G200, 13 G100, 14 OUT NULL, 15 OUT NULL, 16 RG1

## AD624BD
designator U?
Precision Instrumentation Amplifier; Published: 8-Jun-2000; LatestRevisionDate: 04-Mar-2005; LatestRevisionNote: Stylized 3D Model Added.; DatasheetVersion: REV.B 1996; PackageVersion: revB, 1996; PackageReference: D-16_B; Publisher: Altium Limited; PackageDescription: DIP; 16 Leads; Row Spacing 7.62 mm; Pitch 2.54 mm; ComponentLink1Description: Manufacturer Link; ComponentLink1URL: http://www.analog.com/en/prod/0%2C2877%2CAD622%2C00.html; ComponentLink2Description: Datasheet; ComponentLink2URL: http://www.analog.com/UploadedFiles/Data_Sheets/218546992AD622_c.pdf
footprint D-16_B (DIP; 16 Leads; Row Spacing 7.62 mm; Pitch 2.54 mm)
3D model D16-B (DIP; 16 Leads; Row Spacing 7.62 mm; Pitch 2.54 mm)
simulation model AD624B (SUBCKT)
pins: 1 IN- (in), 2 IN+ (in), 3 RG2, 4 IN NULL, 5 IN NULL, 6 REF (in), 7 V- (power), 8 V+ (power), 9 OUT (out), 10 SEN (in), 11 G500, 12 G200, 13 G100, 14 OUT NULL, 15 OUT NULL, 16 RG1

## AD624CD
designator U?
Precision Instrumentation Amplifier; Published: 8-Jun-2000; LatestRevisionDate: 04-Mar-2005; LatestRevisionNote: Stylized 3D Model Added.; DatasheetVersion: REV.B 1996; PackageVersion: revB, 1996; PackageReference: D-16_B; Publisher: Altium Limited; PackageDescription: DIP; 16 Leads; Row Spacing 7.62 mm; Pitch 2.54 mm; ComponentLink1Description: Manufacturer Link; ComponentLink1URL: http://www.analog.com/en/prod/0%2C2877%2CAD622%2C00.html; ComponentLink2Description: Datasheet; ComponentLink2URL: http://www.analog.com/UploadedFiles/Data_Sheets/218546992AD622_c.pdf
footprint D-16_B (DIP; 16 Leads; Row Spacing 7.62 mm; Pitch 2.54 mm)
3D model D16-B (DIP; 16 Leads; Row Spacing 7.62 mm; Pitch 2.54 mm)
simulation model AD624C (SUBCKT)
pins: 1 IN- (in), 2 IN+ (in), 3 RG2, 4 IN NULL, 5 IN NULL, 6 REF (in), 7 V- (power), 8 V+ (power), 9 OUT (out), 10 SEN (in), 11 G500, 12 G200, 13 G100, 14 OUT NULL, 15 OUT NULL, 16 RG1

## AD624SD
designator U?
Precision Instrumentation Amplifier; Published: 8-Jun-2000; LatestRevisionDate: 04-Mar-2005; LatestRevisionNote: Stylized 3D Model Added.; DatasheetVersion: REV.B 1996; PackageVersion: revB, 1996; PackageReference: D-16_B; Publisher: Altium Limited; PackageDescription: DIP; 16 Leads; Row Spacing 7.62 mm; Pitch 2.54 mm; ComponentLink1Description: Manufacturer Link; ComponentLink1URL: http://www.analog.com/en/prod/0%2C2877%2CAD622%2C00.html; ComponentLink2Description: Datasheet; ComponentLink2URL: http://www.analog.com/UploadedFiles/Data_Sheets/218546992AD622_c.pdf
footprint D-16_B (DIP; 16 Leads; Row Spacing 7.62 mm; Pitch 2.54 mm)
3D model D16-B (DIP; 16 Leads; Row Spacing 7.62 mm; Pitch 2.54 mm)
simulation model AD624S (SUBCKT)
pins: 1 IN- (in), 2 IN+ (in), 3 RG2, 4 IN NULL, 5 IN NULL, 6 REF (in), 7 V- (power), 8 V+ (power), 9 OUT (out), 10 SEN (in), 11 G500, 12 G200, 13 G100, 14 OUT NULL, 15 OUT NULL, 16 RG1

## AD624SD/883B
designator U?
Precision Instrumentation Amplifier; Published: 8-Jun-2000; LatestRevisionDate: 04-Mar-2005; LatestRevisionNote: Stylized 3D Model Added.; DatasheetVersion: REV.B 1996; PackageVersion: revB, 1996; PackageReference: D-16_B; Publisher: Altium Limited; PackageDescription: DIP; 16 Leads; Row Spacing 7.62 mm; Pitch 2.54 mm; ComponentLink1Description: Manufacturer Link; ComponentLink1URL: http://www.analog.com/en/prod/0%2C2877%2CAD622%2C00.html; ComponentLink2Description: Datasheet; ComponentLink2URL: http://www.analog.com/UploadedFiles/Data_Sheets/218546992AD622_c.pdf
footprint D-16_B (DIP; 16 Leads; Row Spacing 7.62 mm; Pitch 2.54 mm)
3D model D16-B (DIP; 16 Leads; Row Spacing 7.62 mm; Pitch 2.54 mm)
simulation model AD624S (SUBCKT)
pins: 1 IN- (in), 2 IN+ (in), 3 RG2, 4 IN NULL, 5 IN NULL, 6 REF (in), 7 V- (power), 8 V+ (power), 9 OUT (out), 10 SEN (in), 11 G500, 12 G200, 13 G100, 14 OUT NULL, 15 OUT NULL, 16 RG1

## AD625AD
designator U?
Programmable Gain Instrumentation Amplifier; Note: Pin 6 is not connected; Published: 8-Jun-2000; LatestRevisionDate: 04-Mar-2005; LatestRevisionNote: Stylized 3D Model Added.; DatasheetVersion: REV.B 1998; PackageVersion: revB, 1996; PackageReference: D-16_B; Publisher: Altium Limited; PackageDescription: DIP; 16 Leads; Row Spacing 7.62 mm; Pitch 2.54 mm; ComponentLink1Description: Manufacturer Link; ComponentLink1URL: http://www.analog.com/en/prod/0%2C2877%2CAD625%2C00.html; ComponentLink2Description: Datasheet; ComponentLink2URL: http://www.analog.com/UploadedFiles/Data_Sheets/223795673AD625_d.pdf
footprint D-16_B (DIP; 16 Leads; Row Spacing 7.62 mm; Pitch 2.54 mm)
3D model D16-B (DIP; 16 Leads; Row Spacing 7.62 mm; Pitch 2.54 mm)
pins: 1 IN+ (in), 2 GSEN+, 3 RTI NULL, 4 RTI NULL, 5 +GDRV (out), 6 NC, 7 REF (in), 8 V- (power), 9 +V (power), 10 V OUT (out), 11 SEN (in), 12 -GDRV (out), 13 RTO NULL, 14 RTO NULL, 15 GSEN-, 16 IN- (in)

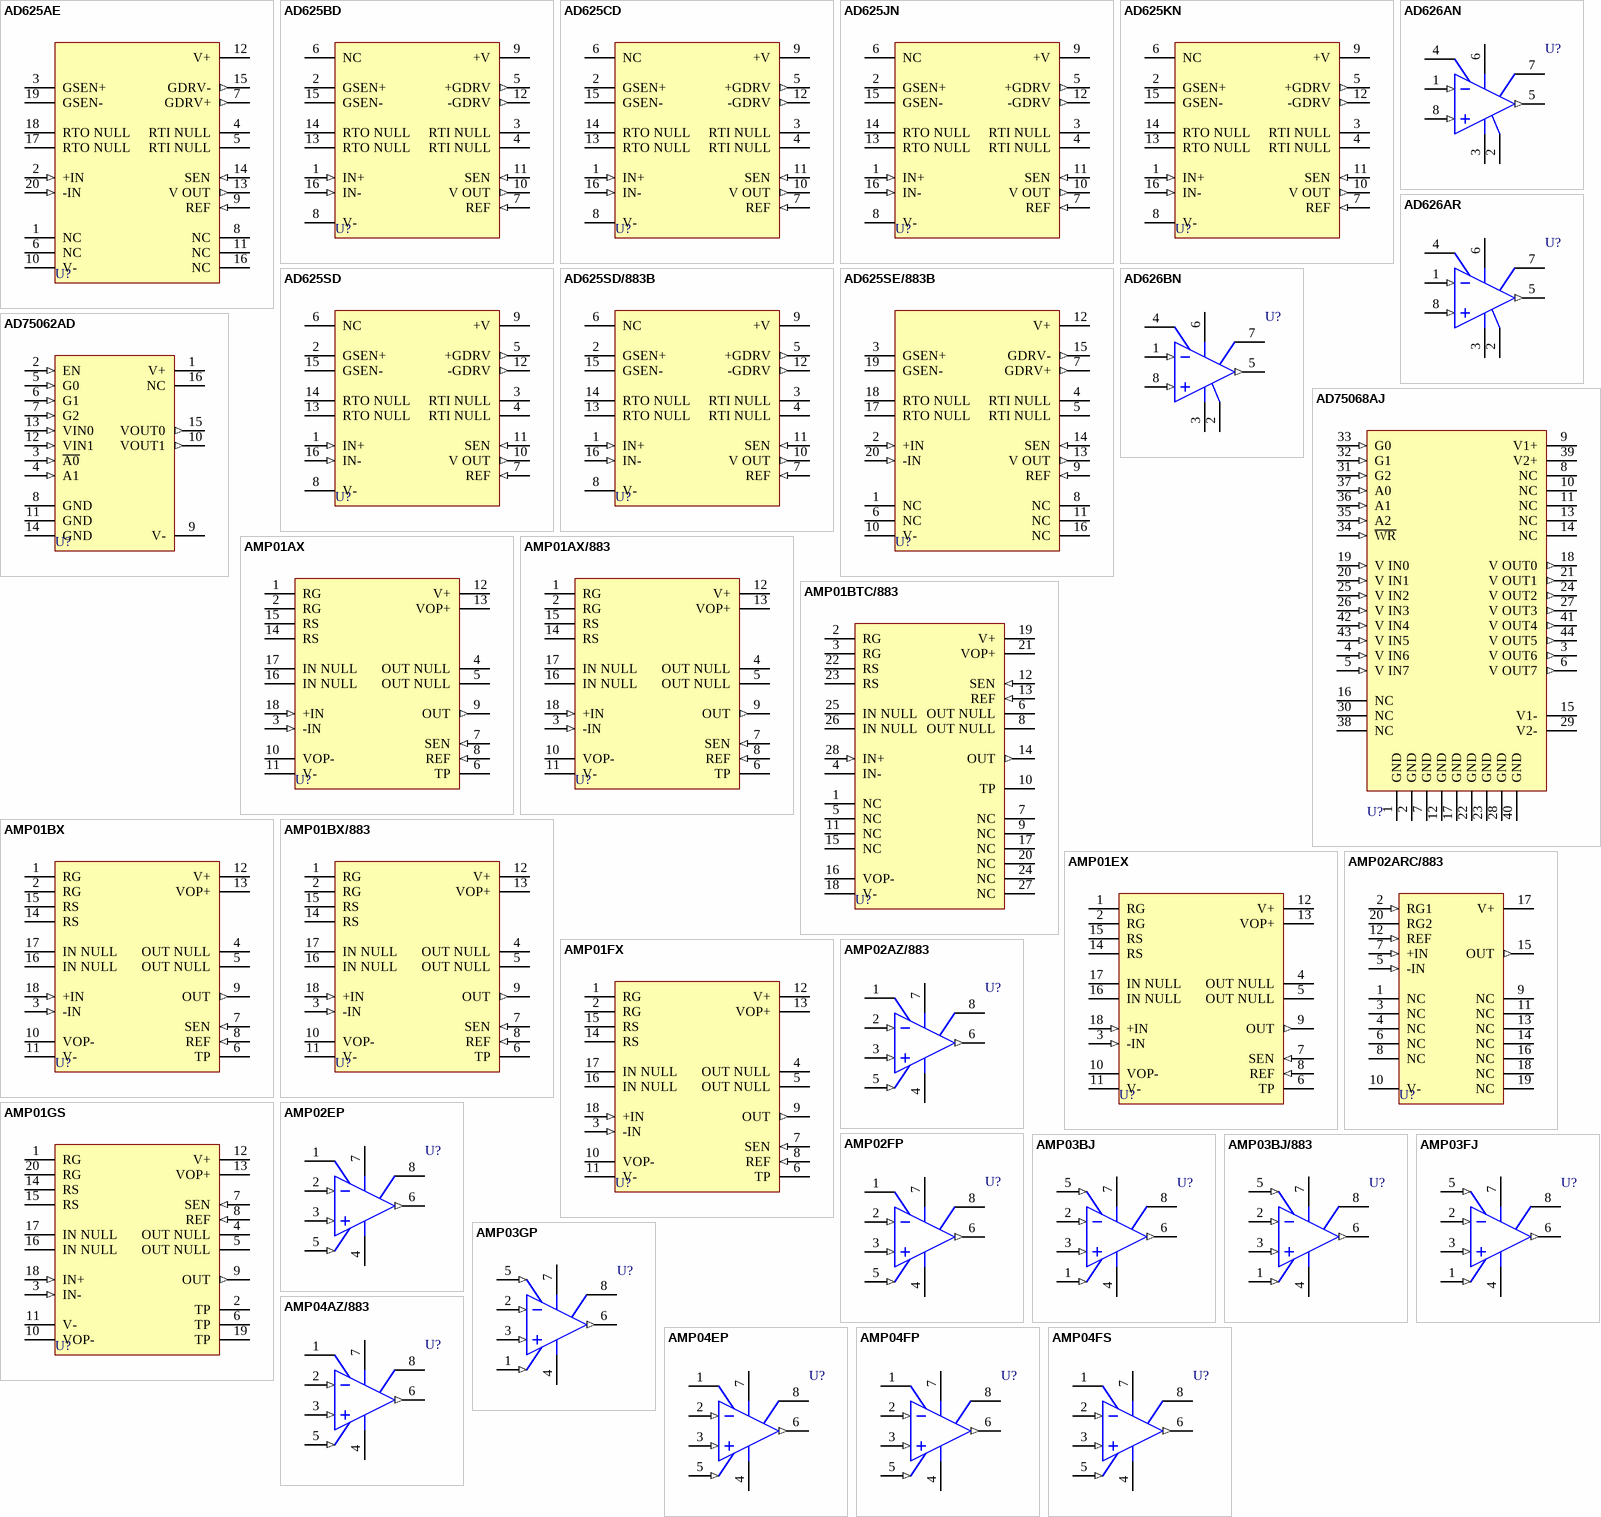
[diagram p1: symbols AD625AE to AMP04FS]

## AD625AE
designator U?
Programmable Gain Instrumentation Amplifier; Note: Pins 1, 6, 8, 11, and 16 are not connected; Published: 8-Jun-2000; LatestRevisionDate: 17-Jul-2002; LatestRevisionNote: Re-released for DXP Platform.; DatasheetVersion: REV.A 1992; PackageReference: E-20A; Publisher: Altium Limited; PackageDescription: Leadless Chip Carrier; 20 Terminals; Body 8.9 x 8.9 mm; ComponentLink1Description: Manufacturer Link; ComponentLink1URL: http://www.analog.com/
footprint E-20A (Leadless Chip Carrier; 20 Terminals; Body 8.9 x 8.9 mm)
pins: 1 NC, 2 +IN (in), 3 GSEN+, 4 RTI NULL, 5 RTI NULL, 6 NC, 7 GDRV+ (out), 8 NC, 9 REF (in), 10 V- (power), 11 NC, 12 V+ (power), 13 V OUT (out), 14 SEN (in), 15 GDRV- (out), 16 NC, 17 RTO NULL, 18 RTO NULL, 19 GSEN-, 20 -IN (in)

## AD625BD
designator U?
Programmable Gain Instrumentation Amplifier; Note: Pin 6 is not connected; Published: 8-Jun-2000; LatestRevisionDate: 04-Mar-2005; LatestRevisionNote: Stylized 3D Model Added.; DatasheetVersion: REV.B 1998; PackageVersion: revB, 1996; PackageReference: D-16_B; Publisher: Altium Limited; PackageDescription: DIP; 16 Leads; Row Spacing 7.62 mm; Pitch 2.54 mm; ComponentLink1Description: Manufacturer Link; ComponentLink1URL: http://www.analog.com/en/prod/0%2C2877%2CAD625%2C00.html; ComponentLink2Description: Datasheet; ComponentLink2URL: http://www.analog.com/UploadedFiles/Data_Sheets/223795673AD625_d.pdf
footprint D-16_B (DIP; 16 Leads; Row Spacing 7.62 mm; Pitch 2.54 mm)
3D model D16-B (DIP; 16 Leads; Row Spacing 7.62 mm; Pitch 2.54 mm)
pins: 1 IN+ (in), 2 GSEN+, 3 RTI NULL, 4 RTI NULL, 5 +GDRV (out), 6 NC, 7 REF (in), 8 V- (power), 9 +V (power), 10 V OUT (out), 11 SEN (in), 12 -GDRV (out), 13 RTO NULL, 14 RTO NULL, 15 GSEN-, 16 IN- (in)

## AD625CD
designator U?
Programmable Gain Instrumentation Amplifier; Note: Pin 6 is not connected; Published: 8-Jun-2000; LatestRevisionDate: 04-Mar-2005; LatestRevisionNote: Stylized 3D Model Added.; DatasheetVersion: REV.B 1998; PackageVersion: revB, 1996; PackageReference: D-16_B; Publisher: Altium Limited; PackageDescription: DIP; 16 Leads; Row Spacing 7.62 mm; Pitch 2.54 mm; ComponentLink1Description: Manufacturer Link; ComponentLink1URL: http://www.analog.com/en/prod/0%2C2877%2CAD625%2C00.html; ComponentLink2Description: Datasheet; ComponentLink2URL: http://www.analog.com/UploadedFiles/Data_Sheets/223795673AD625_d.pdf
footprint D-16_B (DIP; 16 Leads; Row Spacing 7.62 mm; Pitch 2.54 mm)
3D model D16-B (DIP; 16 Leads; Row Spacing 7.62 mm; Pitch 2.54 mm)
pins: 1 IN+ (in), 2 GSEN+, 3 RTI NULL, 4 RTI NULL, 5 +GDRV (out), 6 NC, 7 REF (in), 8 V- (power), 9 +V (power), 10 V OUT (out), 11 SEN (in), 12 -GDRV (out), 13 RTO NULL, 14 RTO NULL, 15 GSEN-, 16 IN- (in)

## AD625JN
designator U?
Programmable Gain Instrumentation Amplifier; Note: Pin 6 is not connected; Published: 8-Jun-2000; LatestRevisionDate: 04-Mar-2005; LatestRevisionNote: Stylized 3D Model Added.; DatasheetVersion: REV.B 1998; PackageVersion: revB; PackageReference: N-16; Publisher: Altium Limited; PackageDescription: DIP; 16 Leads; Row Spacing 7.62 mm; Pitch 2.54 mm; Code_JEDEC: MS-001-BB; ComponentLink1Description: Manufacturer Link; ComponentLink1URL: http://www.analog.com/en/prod/0%2C2877%2CAD625%2C00.html; ComponentLink2Description: Datasheet; ComponentLink2URL: http://www.analog.com/UploadedFiles/Data_Sheets/223795673AD625_d.pdf
footprint N-16 (DIP; 16 Leads; Row Spacing 7.62 mm; Pitch 2.54 mm)
3D model N16 (DIP; 16 Leads; Row Spacing 7.62 mm; Pitch 2.54 mm)
pins: 1 IN+ (in), 2 GSEN+, 3 RTI NULL, 4 RTI NULL, 5 +GDRV (out), 6 NC, 7 REF (in), 8 V- (power), 9 +V (power), 10 V OUT (out), 11 SEN (in), 12 -GDRV (out), 13 RTO NULL, 14 RTO NULL, 15 GSEN-, 16 IN- (in)

## AD625KN
designator U?
Programmable Gain Instrumentation Amplifier; Note: Pin 6 is not connected; Published: 8-Jun-2000; LatestRevisionDate: 04-Mar-2005; LatestRevisionNote: Stylized 3D Model Added.; DatasheetVersion: REV.A 1992; PackageReference: N-16_A; Publisher: Altium Limited; PackageDescription: DIP; 16 Leads; Row Spacing 7.62 mm; Pitch 2.54 mm; ComponentLink1Description: Manufacturer Link; ComponentLink1URL: http://www.analog.com/en/prod/0%2C2877%2CAD625%2C00.html; ComponentLink2Description: Datasheet; ComponentLink2URL: http://www.analog.com/UploadedFiles/Data_Sheets/223795673AD625_d.pdf
footprint N-16_A (DIP; 16 Leads; Row Spacing 7.62 mm; Pitch 2.54 mm)
3D model N16-A (DIP; 16 Leads; Row Spacing 7.62 mm; Pitch 2.54 mm)
pins: 1 IN+ (in), 2 GSEN+, 3 RTI NULL, 4 RTI NULL, 5 +GDRV (out), 6 NC, 7 REF (in), 8 V- (power), 9 +V (power), 10 V OUT (out), 11 SEN (in), 12 -GDRV (out), 13 RTO NULL, 14 RTO NULL, 15 GSEN-, 16 IN- (in)

## AD625SD
designator U?
Programmable Gain Instrumentation Amplifier; Note: Pin 6 is not connected; Published: 8-Jun-2000; LatestRevisionDate: 04-Mar-2005; LatestRevisionNote: Stylized 3D Model Added.; DatasheetVersion: REV.B 1998; PackageVersion: revB, 1996; PackageReference: D-16_B; Publisher: Altium Limited; PackageDescription: DIP; 16 Leads; Row Spacing 7.62 mm; Pitch 2.54 mm; ComponentLink1Description: Manufacturer Link; ComponentLink1URL: http://www.analog.com/en/prod/0%2C2877%2CAD625%2C00.html; ComponentLink2Description: Datasheet; ComponentLink2URL: http://www.analog.com/UploadedFiles/Data_Sheets/223795673AD625_d.pdf
footprint D-16_B (DIP; 16 Leads; Row Spacing 7.62 mm; Pitch 2.54 mm)
3D model D16-B (DIP; 16 Leads; Row Spacing 7.62 mm; Pitch 2.54 mm)
pins: 1 IN+ (in), 2 GSEN+, 3 RTI NULL, 4 RTI NULL, 5 +GDRV (out), 6 NC, 7 REF (in), 8 V- (power), 9 +V (power), 10 V OUT (out), 11 SEN (in), 12 -GDRV (out), 13 RTO NULL, 14 RTO NULL, 15 GSEN-, 16 IN- (in)

## AD625SD/883B
designator U?
Programmable Gain Instrumentation Amplifier; Note: Pin 6 is not connected; Published: 8-Jun-2000; LatestRevisionDate: 04-Mar-2005; LatestRevisionNote: Stylized 3D Model Added.; DatasheetVersion: REV.B 1998; PackageVersion: revB, 1996; PackageReference: D-16_B; Publisher: Altium Limited; PackageDescription: DIP; 16 Leads; Row Spacing 7.62 mm; Pitch 2.54 mm; ComponentLink1Description: Manufacturer Link; ComponentLink1URL: http://www.analog.com/en/prod/0%2C2877%2CAD625%2C00.html; ComponentLink2Description: Datasheet; ComponentLink2URL: http://www.analog.com/UploadedFiles/Data_Sheets/223795673AD625_d.pdf
footprint D-16_B (DIP; 16 Leads; Row Spacing 7.62 mm; Pitch 2.54 mm)
3D model D16-B (DIP; 16 Leads; Row Spacing 7.62 mm; Pitch 2.54 mm)
pins: 1 IN+ (in), 2 GSEN+, 3 RTI NULL, 4 RTI NULL, 5 +GDRV (out), 6 NC, 7 REF (in), 8 V- (power), 9 +V (power), 10 V OUT (out), 11 SEN (in), 12 -GDRV (out), 13 RTO NULL, 14 RTO NULL, 15 GSEN-, 16 IN- (in)

## AD625SE/883B
designator U?
Programmable Gain Instrumentation Amplifier; Note: Pins 1, 6, 8, 11, and 16 are not connected; Published: 8-Jun-2000; LatestRevisionDate: 17-Jul-2002; LatestRevisionNote: Re-released for DXP Platform.; DatasheetVersion: REV.B 1998; PackageReference: E-20A; Publisher: Altium Limited; PackageDescription: Leadless Chip Carrier; 20 Terminals; Body 8.9 x 8.9 mm; ComponentLink1Description: Manufacturer Link; ComponentLink1URL: http://www.analog.com/en/prod/0%2C2877%2CAD625%2C00.html; ComponentLink2Description: Datasheet; ComponentLink2URL: http://www.analog.com/UploadedFiles/Data_Sheets/223795673AD625_d.pdf
footprint E-20A (Leadless Chip Carrier; 20 Terminals; Body 8.9 x 8.9 mm)
pins: 1 NC, 2 +IN (in), 3 GSEN+, 4 RTI NULL, 5 RTI NULL, 6 NC, 7 GDRV+ (out), 8 NC, 9 REF (in), 10 V- (power), 11 NC, 12 V+ (power), 13 V OUT (out), 14 SEN (in), 15 GDRV- (out), 16 NC, 17 RTO NULL, 18 RTO NULL, 19 GSEN-, 20 -IN (in)

## AD626AN
designator U?
Low-Cost, Single-Supply Differential Amplifier; Note: Pin 2 is analog ground; Published: 8-Jun-2000; LatestRevisionDate: 04-Mar-2005; LatestRevisionNote: SIM model corrected, Stylized 3D Model Added.; DatasheetVersion: REV.B 1998; PackageVersion: revA; PackageReference: N-8; Publisher: Altium Limited; PackageDescription: DIP; 8 Leads; Row Spacing 7.62 mm; Pitch 2.54 mm; ComponentLink1Description: Manufacturer Link; ComponentLink1URL: http://www.analog.com/en/prod/0%2C2877%2CAD626%2C00.html; ComponentLink2Description: Datasheet; ComponentLink2URL: http://www.analog.com/UploadedFiles/Data_Sheets/441354443AD626_d.pdf
footprint N-8 (DIP; 8 Leads; Row Spacing 7.62 mm; Pitch 2.54 mm)
3D model N8 (DIP; 8 Leads; Row Spacing 7.62 mm; Pitch 2.54 mm)
simulation model AD626A (SUBCKT)
pins: 1 -IN (in), 2 GND (power), 3 V- (power), 4 FILT, 5 OUT (out), 6 V+ (power), 7 G100, 8 +IN (in)

## AD626AR
designator U?
Low-Cost, Single-Supply Differential Amplifier; Note: Pin 2 is analog ground; Published: 8-Jun-2000; LatestRevisionDate: 13-Apr-2006; LatestRevisionNote: IPC-7351 Footprint Added.; DatasheetVersion: REV.B 1998; PackageVersion: 2005; PackageReference: R-8; Publisher: Altium Limited; PackageDescription: 8-Pin Narrow Body Small Outline Integrated Circuit 1.27 mm Pitch; Code_JEDEC: MS-012-AA; Code_IPC: SOIC127P600-8; ComponentLink1Description: Manufacturer Link; ComponentLink1URL: http://www.analog.com/en/prod/0%2C2877%2CAD626%2C00.html; ComponentLink2Description: Datasheet; ComponentLink2URL: http://www.analog.com/UploadedFiles/Data_Sheets/441354443AD626_d.pdf
footprint R-8_N (SOIC, 8-Leads, Body 4.9x3.9mm, Pitch 1.27mm, IPC Medium Density)
footprint R-8_L (SOIC, 8-Leads, Body 4.9x3.9mm, Pitch 1.27mm, IPC High Density)
footprint R-8_M (SOIC, 8-Leads, Body 4.9x3.9mm, Pitch 1.27mm, IPC Low Density)
3D model SO-8 (8-Pin Narrow Body Small Outline Integrated Circuit 1.27 mm Pitch)
simulation model AD626A (SUBCKT)
pins: 1 -IN (in), 2 GND (power), 3 V- (power), 4 FILT, 5 OUT (out), 6 V+ (power), 7 G100, 8 +IN (in)

## AD626BN
designator U?
Low-Cost, Single-Supply Differential Amplifier; Note: Pin 2 is analog ground; Published: 8-Jun-2000; LatestRevisionDate: 04-Mar-2005; LatestRevisionNote: Stylized 3D Model Added.; DatasheetVersion: REV.B 1998; PackageVersion: revA; PackageReference: N-8; Publisher: Altium Limited; PackageDescription: DIP; 8 Leads; Row Spacing 7.62 mm; Pitch 2.54 mm; ComponentLink1Description: Manufacturer Link; ComponentLink1URL: http://www.analog.com/en/prod/0%2C2877%2CAD626%2C00.html; ComponentLink2Description: Datasheet; ComponentLink2URL: http://www.analog.com/UploadedFiles/Data_Sheets/441354443AD626_d.pdf
footprint N-8 (DIP; 8 Leads; Row Spacing 7.62 mm; Pitch 2.54 mm)
3D model N8 (DIP; 8 Leads; Row Spacing 7.62 mm; Pitch 2.54 mm)
simulation model AD626B (SUBCKT)
pins: 1 -IN (in), 2 GND (power), 3 V- (power), 4 FILT, 5 OUT (out), 6 V+ (power), 7 G100, 8 +IN (in)

## AD75062AD
designator U?
Multiple 2MHz PGAs; Note: Pin 16 is Not Connect (NC) pin; Pins 11 and 14 are analog ground; Pin 8 is digital ground.; Published: 8-Jun-2000; LatestRevisionDate: 04-Mar-2005; LatestRevisionNote: Stylized 3D Model Added.; DatasheetVersion: REV.0 1992; PackageReference: D-16; Publisher: Altium Limited; PackageDescription: DIP; 16 Leads; Row Spacing 7.62 mm; Pitch 2.54 mm; ComponentLink1Description: Manufacturer Link; ComponentLink1URL: http://www.analog.com/
footprint D-16 (DIP; 16 Leads; Row Spacing 7.62 mm; Pitch 2.54 mm)
3D model N16-A (DIP; 16 Leads; Row Spacing 7.62 mm; Pitch 2.54 mm)
pins: 1 V+ (power), 2 EN (in), 3 ~{A0} (in), 4 A1 (in), 5 G0 (in), 6 G1 (in), 7 G2 (in), 8 GND (power), 9 V- (power), 10 VOUT1 (out), 11 GND (power), 12 VIN1 (in), 13 VIN0 (in), 14 GND (power), 15 VOUT0 (out), 16 NC

## AD75068AJ
designator U?
Multiple 2MHz PGAs; Note: Pins 8, 10, 11, 13, 14, 16, 30 and 38 are Not Connect pins; Pin 12 is digital ground; Pins 1,2,7,17,22,23,28 and 40 are analog ground.; Published: 8-Jun-2000; LatestRevisionDate: 13-Apr-2006; LatestRevisionNote: IPC-7351 Footprint Added.; DatasheetVersion: REV.0 1992; PackageVersion: rev0, 1992; PackageReference: J-44; Publisher: Altium Limited; PackageDescription: 44-Pin Leaded Chip Carrier 1.27 mm Pitch; ComponentLink1Description: Manufacturer Link; ComponentLink1URL: http://www.analog.com/
footprint J-44_N (Leaded Chip Carrier, 44-Leads, Body 16.4x16.4mm, Pitch 1.27mm, IPC Medium Density)
footprint J-44_L (Leaded Chip Carrier, 44-Leads, Body 16.4x16.4mm, Pitch 1.27mm, IPC High Density)
footprint J-44_M (Leaded Chip Carrier, 44-Leads, Body 16.4x16.4mm, Pitch 1.27mm, IPC Low Density)
3D model AD75068-J44 (44-Pin Leaded Chip Carrier 1.27 mm Pitch)
pins: 1 GND (power), 2 GND (power), 3 V OUT6 (out), 4 V IN6 (in), 5 V IN7 (in), 6 V OUT7 (out), 7 GND (power), 8 NC, 9 V1+ (power), 10 NC, 11 NC, 12 GND (power), 13 NC, 14 NC, 15 V1- (power), 16 NC, 17 GND (power), 18 V OUT0 (out), 19 V IN0 (in), 20 V IN1 (in), 21 V OUT1 (out), 22 GND (power), 23 GND (power), 24 V OUT2 (out), 25 V IN2 (in), 26 V IN3 (in), 27 V OUT3 (out), 28 GND (power), 29 V2- (power), 30 NC, 31 G2 (in), 32 G1 (in), 33 G0 (in), 34 ~{WR} (in), 35 A2 (in), 36 A1 (in), 37 A0 (in), 38 NC, 39 V2+ (power), 40 GND (power), 41 V OUT4 (out), 42 V IN4 (in), 43 V IN5 (in), 44 V OUT5 (out)

## AMP01AX
designator U?
Low-Noise, Precision Instrumentation Amplifier; Note: Pin 6 is a test pin.  Make no electrical connection to pin 6; Published: 8-Jun-2000; LatestRevisionDate: 04-Mar-2005; LatestRevisionNote: Stylized 3D Model Added.; DatasheetVersion: REV.C 1998; PackageReference: Q-18; Publisher: Altium Limited; PackageDescription: DIP, Ceramic; 18 Leads; Row Spacing 7.62 mm; Pitch 2.54 mm; ComponentLink1Description: Manufacturer Link; ComponentLink1URL: http://www.analog.com/en/prod/0%2C2877%2CAMP01%2C00.html; ComponentLink2Description: Datasheet; ComponentLink2URL: http://www.analog.com/UploadedFiles/Data_Sheets/376080747AMP01_d.pdf
footprint Q-18 (DIP, Ceramic; 18 Leads; Row Spacing 7.62 mm; Pitch 2.54 mm)
3D model Q18 (DIP, Ceramic; 18 Leads; Row Spacing 7.62 mm; Pitch 2.54 mm)
simulation model AMP01 (SUBCKT)
pins: 1 RG, 2 RG, 3 -IN (in), 4 OUT NULL, 5 OUT NULL, 6 TP, 7 SEN (in), 8 REF (in), 9 OUT (out), 10 VOP- (power), 11 V- (power), 12 V+ (power), 13 VOP+ (power), 14 RS, 15 RS, 16 IN NULL, 17 IN NULL, 18 +IN (in)

## AMP01AX/883
designator U?
Low-Noise, Precision Instrumentation Amplifier; Note: Pin 6 is a test pin.  Make no electrical connection to pin 6; Published: 8-Jun-2000; LatestRevisionDate: 04-Mar-2005; LatestRevisionNote: Stylized 3D Model Added.; DatasheetVersion: REV.C1 1990; PackageReference: Q-18; Publisher: Altium Limited; PackageDescription: DIP, Ceramic; 18 Leads; Row Spacing 7.62 mm; Pitch 2.54 mm; ComponentLink1Description: Manufacturer Link; ComponentLink1URL: http://www.analog.com/en/prod/0%2C2877%2CAMP01%2C00.html; ComponentLink2Description: Datasheet; ComponentLink2URL: http://www.analog.com/UploadedFiles/Data_Sheets/376080747AMP01_d.pdf
footprint Q-18 (DIP, Ceramic; 18 Leads; Row Spacing 7.62 mm; Pitch 2.54 mm)
3D model Q18 (DIP, Ceramic; 18 Leads; Row Spacing 7.62 mm; Pitch 2.54 mm)
simulation model AMP01 (SUBCKT)
pins: 1 RG, 2 RG, 3 -IN (in), 4 OUT NULL, 5 OUT NULL, 6 TP, 7 SEN (in), 8 REF (in), 9 OUT (out), 10 VOP- (power), 11 V- (power), 12 V+ (power), 13 VOP+ (power), 14 RS, 15 RS, 16 IN NULL, 17 IN NULL, 18 +IN (in)